# Altium schematic symbol library GRM31CR61E106MA12L.SchLib: 1 symbol
Pins are listed as number, name and electrical type; pins without a type are passive.

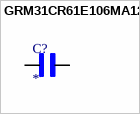
[diagram p0: symbol GRM31CR61E106MA12L]

## GRM31CR61E106MA12L
designator C?
Cap Ceramic 10uF 25V X5R 20% SMD 1206 85Â°C Embossed T/R; MF: {'manufacturer': u'Murata Electronics'}; MP: GRM31CR61E106MA12L; Package: None; Price: None; Value: *; Availability: Unavailable
footprint CAP3216X125N
pins: 1, 2